# Altium footprint library PcbLib1.PcbLib: 21 footprints (part 2 of 2)
Each footprint in its own frame and in the unit in brackets; x right, y up, seen from the top. Pads: shape width x height; smd on the part's side, far side on the other; paste and mask are expansions set on the pad; w line width, h text height; cw(c..) or ccw(c..) is an arc to the next point about the centre after c.
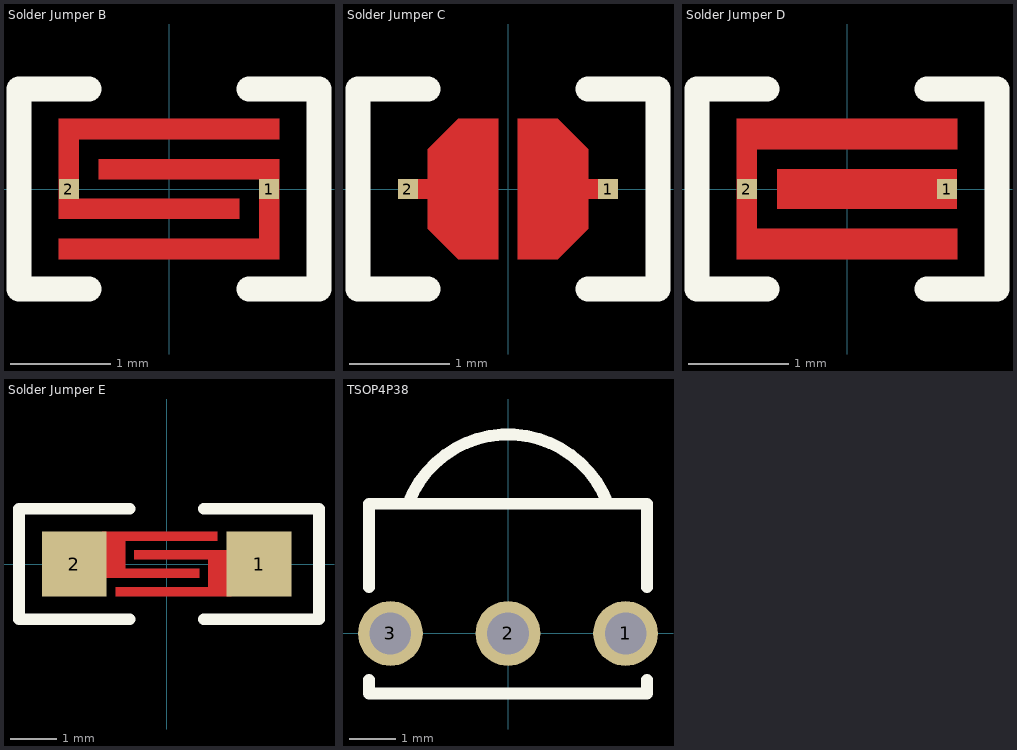
[diagram p1: the footprints below, top view; thin cyan lines are the x and y axes]

## Solder Jumper B [mm] "Solder Jumper B"
pads (2):
  rect 0.2x0.2 smd: 1(1,0) 2(-1,0)
Top Layer:
  region: -0.7,0.3 -0.7,0.1 0.9,0.1 0.9,-0.5 -1.1,-0.5 -1.1,-0.7 1.1,-0.7 1.1,0.3
  region: 1.1,0.5 1.1,0.7 -1.1,0.7 -1.1,-0.3 0.7,-0.3 0.7,-0.1 -0.9,-0.1 -0.9,0.5
Top Overlay:
  lines w0.254: -0.8,-1 -1.5,-1 -1.5,1 -0.8,1 ; 0.8,-1 1.5,-1 1.5,1 0.8,1
Top Solder:
  region: 1.2,0.8 1.2,-0.8 -1.2,-0.8 -1.2,0.8

## Solder Jumper C [mm] "Solder Jumper C"
pads (2):
  rect 0.2x0.2 smd: 1(1,0) 2(-1,0)
Top Layer:
  region: -0.1,0.7 -0.5,0.7 -0.8,0.4 -0.8,-0.4 -0.5,-0.7 -0.1,-0.7
  region: 0.1,0.7 0.5,0.7 0.8,0.4 0.8,-0.4 0.5,-0.7 0.1,-0.7
  lines w0.2: -1,0 -0.8,0 ; 0.8,0 1,0
Top Overlay:
  lines w0.254: -0.8,-1 -1.5,-1 -1.5,1 -0.8,1 ; 0.8,-1 1.5,-1 1.5,1 0.8,1
Top Solder:
  region: -0.55,0.8 -0.9,0.45 -0.9,-0.45 -0.55,-0.8 0.55,-0.8 0.9,-0.45 0.9,0.45 0.55,0.8

## Solder Jumper D [mm] "Solder Jumper D"
pads (2):
  rect 0.2x0.2 smd: 1(1,0) 2(-1,0)
Top Layer:
  rectangle: -0.7,-0.2 1.1,0.2
  region: 1.1,0.4 1.1,0.7 -1.1,0.7 -1.1,-0.7 1.1,-0.7 1.1,-0.4 -0.9,-0.4 -0.9,0.4
Top Overlay:
  lines w0.254: -0.8,-1 -1.5,-1 -1.5,1 -0.8,1 ; 0.8,-1 1.5,-1 1.5,1 0.8,1
Top Solder:
  region: 1.2,0.8 1.2,-0.8 -1.2,-0.8 -1.2,0.8

## Solder Jumper E [mm] "Solder Jumper E"
pads (2):
  rect 1.4x1.4 smd: 1(2,0) 2(-2,0)
Top Layer:
  region: -0.7,0.3 -0.7,0.1 0.9,0.1 0.9,-0.5 -1.1,-0.5 -1.1,-0.7 1.4,-0.7 1.4,0.3
  region: -1.4,0.7 1.1,0.7 1.1,0.5 -0.9,0.5 -0.9,-0.1 0.7,-0.1 0.7,-0.3 -1.4,-0.3
Top Overlay:
  lines w0.254: -0.8,-1.2 -3.2,-1.2 -3.2,1.2 -0.8,1.2 ; 0.8,-1.2 3.3,-1.2 3.3,1.2 0.8,1.2
Top Solder:
  region: 1.5,0.8 1.5,-0.8 -1.5,-0.8 -1.5,0.8

## TSOP4P38 [mm]
pads (3):
  round 1.4 hole 0.9: 1(2.54,0) 2(0,0) 3(-2.54,0)
Top Overlay:
  lines w0.254: -3,-1 -3,-1.3 3,-1.3 3,-1 ; -3,1 -3,2.8 3,2.8 3,1 ; -2.149,2.819 cw(c0,2) 2.149,2.819